# Altium footprint library RESC1508X63N.PcbLib: 1 footprints
Each footprint in its own frame and in the unit in brackets; x right, y up, seen from the top. Pads: shape width x height; smd on the part's side, far side on the other; paste and mask are expansions set on the pad; w line width, h text height; cw(c..) or ccw(c..) is an arc to the next point about the centre after c.
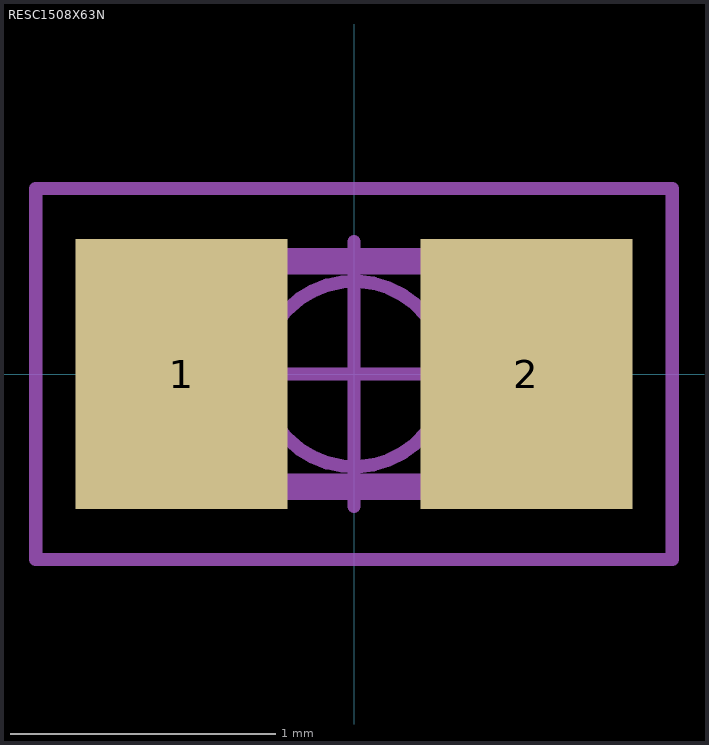
[diagram p0: the footprint, top view; thin cyan lines are the x and y axes]

## RESC1508X63N [mm] "Chip Resistor, EIA 0603, Metric 1608, Body 1.5x0.8mm, IPC Medium Density"
height 0.63
pads (2):
  rect 0.8x1.02 smd: 1(-0.65,0) 2(0.65,0)
Mechanical 14:
  lines w0.1: -0.76,-0.425 0.76,-0.425 0.76,0.425 -0.76,0.425 -0.76,-0.425
Mechanical 15:
  circle w0.05: c0,0 r0.35
  lines w0.05: -0.5,0 0.5,0 ; 0,-0.5 0,0.5 ; -1.2,-0.7 1.2,-0.7 1.2,0.7 -1.2,0.7 -1.2,-0.7
3D body "RESC1508X63N.stp": height 0.63, standoff 0, extent -0.76,-0.425 0.76,0.425